# EAGLE library part HUMIDITY-TEMP-SENSOR-HDC1008 (library FlashPCB_Sensors)
HDC1008 - Humidity, Temperature 0~100% RH I²C +/- 4% RH 15 s Surface Mount Technical Specifications: Sensor Type: Relative Humidity, Temperature 14-Bit Measurement Resolition Relative Humidity Operating Range: 0~100% Relative Humidity Accuracy: +/- 4% Temperature Accuracy: +/- 0.2 deg C Supply Voltage: 3V~5V Component Search: HDC1008 <https://www.flashpcb.com/components> Datasheet: HDC1008 Low Power, High Accuracy Digital Humidity Sensor with Temperature Sensor datasheet (Rev. B) <https://www.ti.com/lit/ds/symlink/hdc1008.pdf?HQS=dis-dk-null-digikeymode-dsf-pf-null-wwe&ts=1682446418557&ref_url=https%253A%252F%252Fwww.ti.com%252Fgeneral%252Fdocs%252Fsuppproductinfo.tsp%253FdistId%253D10%2526gotoUrl%253Dhttps%253A%252F%252Fwww.ti.com%252Flit%252Fgpn%252Fhdc1008>
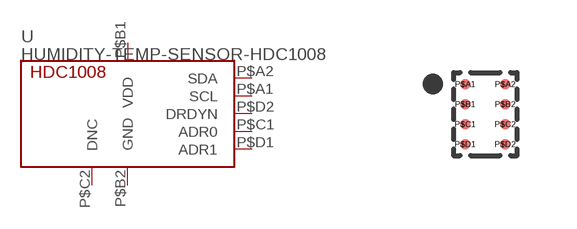
[diagram p10: symbol with the pads of 8-DSBGA-NSMD; footprint 8-DSBGA-NSMD]

Designator prefix U

## HUMIDITY-TEMP-SENSOR-HDC1008NSMD  [8-DSBGA-NSMD]
P$A1  SCL
P$A2  SDA
P$B1  VDD
P$B2  GND
P$C1  ADR0
P$C2  DNC
P$D1  ADR1
P$D2  DRDYN

## Footprint 8-DSBGA-NSMD (pad centres in mm)
smd 0.263 x 0.263: P$A1 -0.5,0.75; P$A2 0.5,0.75; P$B1 -0.5,0.25; P$B2 0.5,0.25; P$C1 -0.5,-0.25; P$C2 0.5,-0.25; P$D1 -0.5,-0.75; P$D2 0.5,-0.75